# EAGLE library part EPM7256-P160 (library altera)
EPM7256E MAX 7000 family
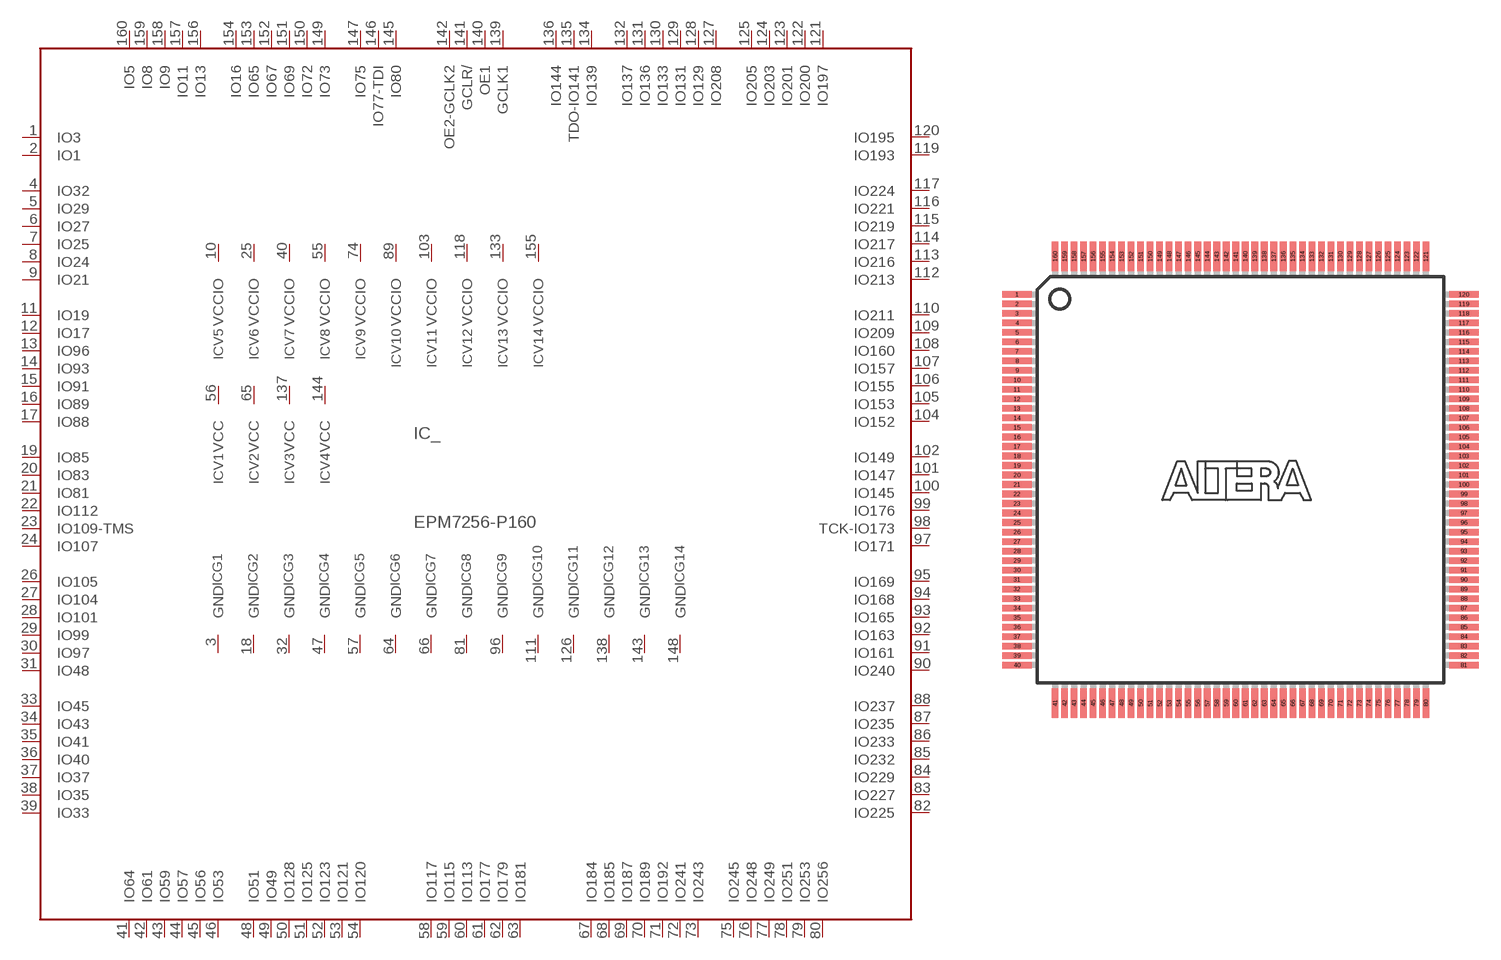
[diagram p14: symbol with the pads of PQFP160; footprint PQFP160]

Designator prefix IC; gates G1=GND G2=GND G3=GND G4=GND G5=GND G6=GND G7=GND G8=GND G9=GND G10=GND G11=GND G12=GND G13=GND G14=GND V1=VCCINT V2=VCCINT V3=VCCINT V4=VCCINT V5=VCCIO V6=VCCIO V7=VCCIO V8=VCCIO V9=VCCIO V10=VCCIO V11=VCCIO V12=VCCIO V13=VCCIO V14=VCCIO _=7256P160

## EPM7256-P160  [PQFP160]
1  _:IO3
2  _:IO1
3  G1:GND  pwr
4  _:IO32
5  _:IO29
6  _:IO27
7  _:IO25
8  _:IO24
9  _:IO21
10  V5:VCCIO  pwr
11  _:IO19
12  _:IO17
13  _:IO96
14  _:IO93
15  _:IO91
16  _:IO89
17  _:IO88
18  G2:GND  pwr
19  _:IO85
20  _:IO83
21  _:IO81
22  _:IO112
23  _:IO109-TMS
24  _:IO107
25  V6:VCCIO  pwr
26  _:IO105
27  _:IO104
28  _:IO101
29  _:IO99
30  _:IO97
31  _:IO48
32  G3:GND  pwr
33  _:IO45
34  _:IO43
35  _:IO41
36  _:IO40
37  _:IO37
38  _:IO35
39  _:IO33
40  V7:VCCIO  pwr
41  _:IO64
42  _:IO61
43  _:IO59
44  _:IO57
45  _:IO56
46  _:IO53
47  G4:GND  pwr
48  _:IO51
49  _:IO49
50  _:IO128
51  _:IO125
52  _:IO123
53  _:IO121
54  _:IO120
55  V8:VCCIO  pwr
56  V1:VCC  pwr
57  G5:GND  pwr
58  _:IO117
59  _:IO115
60  _:IO113
61  _:IO177
62  _:IO179
63  _:IO181
64  G6:GND  pwr
65  V2:VCC  pwr
66  G7:GND  pwr
67  _:IO184
68  _:IO185
69  _:IO187
70  _:IO189
71  _:IO192
72  _:IO241
73  _:IO243
74  V9:VCCIO  pwr
75  _:IO245
76  _:IO248
77  _:IO249
78  _:IO251
79  _:IO253
80  _:IO256
81  G8:GND  pwr
82  _:IO225
83  _:IO227
84  _:IO229
85  _:IO232
86  _:IO233
87  _:IO235
88  _:IO237
89  V10:VCCIO  pwr
90  _:IO240
91  _:IO161
92  _:IO163
93  _:IO165
94  _:IO168
95  _:IO169
96  G9:GND  pwr
97  _:IO171
98  _:TCK-IO173
99  _:IO176
100  _:IO145
101  _:IO147
102  _:IO149
103  V11:VCCIO  pwr
104  _:IO152
105  _:IO153
106  _:IO155
107  _:IO157
108  _:IO160
109  _:IO209
110  _:IO211
111  G10:GND  pwr
112  _:IO213
113  _:IO216
114  _:IO217
115  _:IO219
116  _:IO221
117  _:IO224
118  V12:VCCIO  pwr
119  _:IO193
120  _:IO195
121  _:IO197
122  _:IO200
123  _:IO201
124  _:IO203
125  _:IO205
126  G11:GND  pwr
127  _:IO208
128  _:IO129
129  _:IO131
130  _:IO133
131  _:IO136
132  _:IO137
133  V13:VCCIO  pwr
134  _:IO139
135  _:TDO-IO141
136  _:IO144
137  V3:VCC  pwr
138  G12:GND  pwr
139  _:GCLK1  in
140  _:OE1  in
141  _:GCLR/  in
142  _:OE2-GCLK2  in
143  G13:GND  pwr
144  V4:VCC  pwr
145  _:IO80
146  _:IO77-TDI
147  _:IO75
148  G14:GND  pwr
149  _:IO73
150  _:IO72
151  _:IO69
152  _:IO67
153  _:IO65
154  _:IO16
155  V14:VCCIO  pwr
156  _:IO13
157  _:IO11
158  _:IO9
159  _:IO8
160  _:IO5

## Footprint PQFP160 (pad centres in mm)
Plastic Quad Flat Pack
smd 2 x 0.45: 1 -15.275,12.675; 2 -15.275,12.025; 3 -15.275,11.375; 4 -15.275,10.725; 5 -15.275,10.075; 6 -15.275,9.425; 7 -15.275,8.775; 8 -15.275,8.125; 9 -15.275,7.475; 10 -15.275,6.825; 11 -15.275,6.175; 12 -15.275,5.525; 13 -15.275,4.875; 14 -15.275,4.225; 15 -15.275,3.575; 16 -15.275,2.925; 17 -15.275,2.275; 18 -15.275,1.625; 19 -15.275,0.975; 20 -15.275,0.325; 21 -15.275,-0.325; 22 -15.275,-0.975; 23 -15.275,-1.625; 24 -15.275,-2.275; 25 -15.275,-2.925; 26 -15.275,-3.575; 27 -15.275,-4.225; 28 -15.275,-4.875; 29 -15.275,-5.525; 30 -15.275,-6.175; 31 -15.275,-6.825; 32 -15.275,-7.475; 33 -15.275,-8.125; 34 -15.275,-8.775; 35 -15.275,-9.425; 36 -15.275,-10.075; 37 -15.275,-10.725; 38 -15.275,-11.375; 39 -15.275,-12.025; 40 -15.275,-12.675; 81 15.275,-12.675; 82 15.275,-12.025; 83 15.275,-11.375; 84 15.275,-10.725; 85 15.275,-10.075; 86 15.275,-9.425; 87 15.275,-8.775; 88 15.275,-8.125; 89 15.275,-7.475; 90 15.275,-6.825; 91 15.275,-6.175; 92 15.275,-5.525; 93 15.275,-4.875; 94 15.275,-4.225; 95 15.275,-3.575; 96 15.275,-2.925; 97 15.275,-2.275; 98 15.275,-1.625; 99 15.275,-0.975; 100 15.275,-0.325; 101 15.275,0.325; 102 15.275,0.975; 103 15.275,1.625; 104 15.275,2.275; 105 15.275,2.925; 106 15.275,3.575; 107 15.275,4.225; 108 15.275,4.875; 109 15.275,5.525; 110 15.275,6.175; 111 15.275,6.825; 112 15.275,7.475; 113 15.275,8.125; 114 15.275,8.775; 115 15.275,9.425; 116 15.275,10.075; 117 15.275,10.725; 118 15.275,11.375; 119 15.275,12.025; 120 15.275,12.675
smd 0.45 x 2: 41 -12.675,-15.275; 42 -12.025,-15.275; 43 -11.375,-15.275; 44 -10.725,-15.275; 45 -10.075,-15.275; 46 -9.425,-15.275; 47 -8.775,-15.275; 48 -8.125,-15.275; 49 -7.475,-15.275; 50 -6.825,-15.275; 51 -6.175,-15.275; 52 -5.525,-15.275; 53 -4.875,-15.275; 54 -4.225,-15.275; 55 -3.575,-15.275; 56 -2.925,-15.275; 57 -2.275,-15.275; 58 -1.625,-15.275; 59 -0.975,-15.275; 60 -0.325,-15.275; 61 0.325,-15.275; 62 0.975,-15.275; 63 1.625,-15.275; 64 2.275,-15.275; 65 2.925,-15.275; 66 3.575,-15.275; 67 4.225,-15.275; 68 4.875,-15.275; 69 5.525,-15.275; 70 6.175,-15.275; 71 6.825,-15.275; 72 7.475,-15.275; 73 8.125,-15.275; 74 8.775,-15.275; 75 9.425,-15.275; 76 10.075,-15.275; 77 10.725,-15.275; 78 11.375,-15.275; 79 12.025,-15.275; 80 12.675,-15.275; 121 12.675,15.275; 122 12.025,15.275; 123 11.375,15.275; 124 10.725,15.275; 125 10.075,15.275; 126 9.425,15.275; 127 8.775,15.275; 128 8.125,15.275; 129 7.475,15.275; 130 6.825,15.275; 131 6.175,15.275; 132 5.525,15.275; 133 4.875,15.275; 134 4.225,15.275; 135 3.575,15.275; 136 2.925,15.275; 137 2.275,15.275; 138 1.625,15.275; 139 0.975,15.275; 140 0.325,15.275; 141 -0.325,15.275; 142 -0.975,15.275; 143 -1.625,15.275; 144 -2.275,15.275; 145 -2.925,15.275; 146 -3.575,15.275; 147 -4.225,15.275; 148 -4.875,15.275; 149 -5.525,15.275; 150 -6.175,15.275; 151 -6.825,15.275; 152 -7.475,15.275; 153 -8.125,15.275; 154 -8.775,15.275; 155 -9.425,15.275; 156 -10.075,15.275; 157 -10.725,15.275; 158 -11.375,15.275; 159 -12.025,15.275; 160 -12.675,15.275